# Altium schematic symbol library 1N4148WT.SchLib: 1 symbol
Pins are listed as number, name and electrical type; pins without a type are passive.

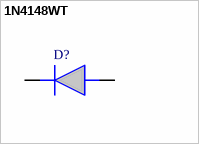
[diagram p0: symbol 1N4148WT]

## 1N4148WT
designator D?
ON SEMICONDUCTOR - 1N4148WT - DIODE, SWITCHING, 75V, SOD-523F-2; Manufacturer_Name: onsemi; Geometry.Height: 0.7mm; Manufacturer_Part_Number: 1N4148WT; Mouser Part Number: 512-1N4148WT; Mouser Price/Stock: https://www.mouser.co.uk/ProductDetail/ON-Semiconductor-Fairchild/1N4148WT?qs=2%2FYqgE%252BHg%252BJTXBWnIBbu3Q%3D%3D; Arrow Part Number: 1N4148WT; Arrow Price/Stock: https://www.arrow.com/en/products/1n4148wt/on-semiconductor?region=nac; Mouser Testing Part Number: *; Mouser Testing Price/Stock: *; Datasheet Link: https://componentsearchengine.com/Datasheets/2/1N4148WT.pdf
footprint SODFL1608X70N
pins: 1 K, 2 A